# Altium footprint library Basic_fp_lib.PcbLib: 47 footprints (part 2 of 3)
Each footprint in its own frame and in the unit in brackets; x right, y up, seen from the top. Pads: shape width x height; smd on the part's side, far side on the other; paste and mask are expansions set on the pad; w line width, h text height; cw(c..) or ccw(c..) is an arc to the next point about the centre after c.
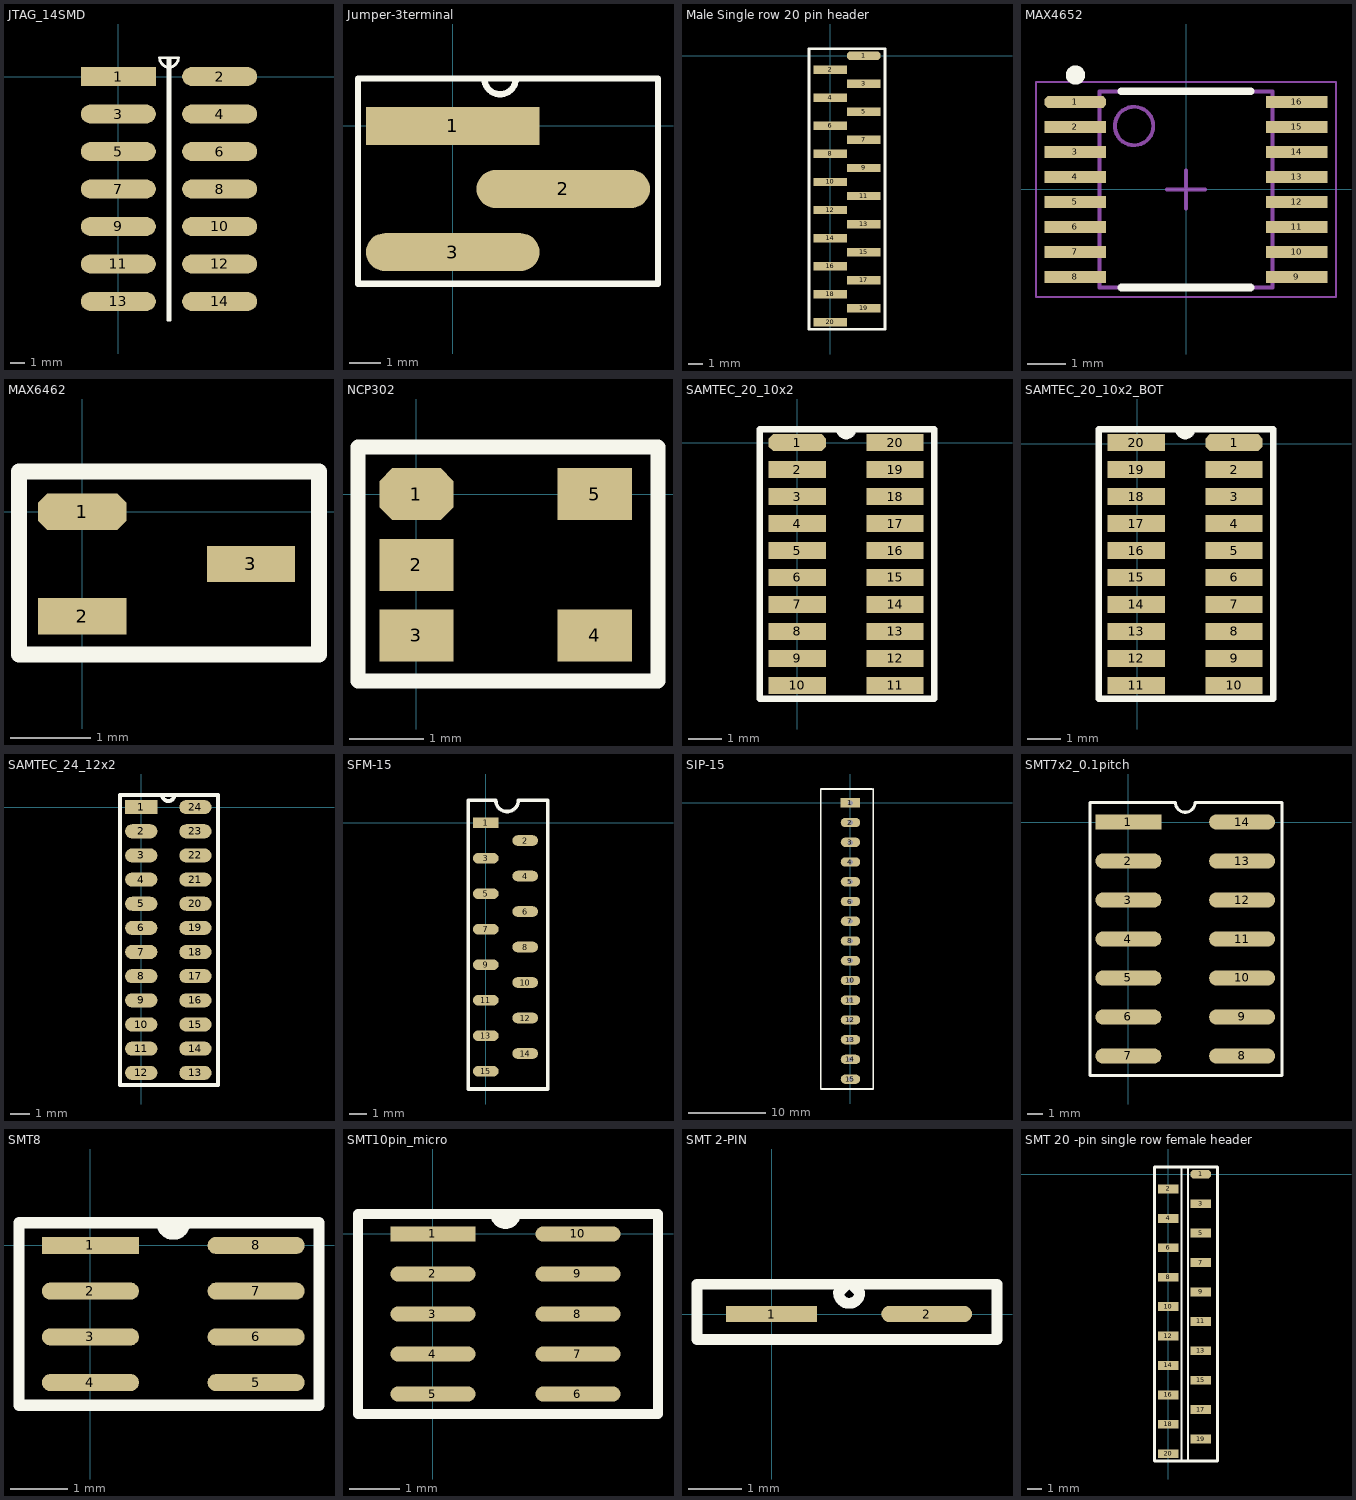
[diagram p1: the footprints below, top view; thin cyan lines are the x and y axes]

## JTAG_14SMD [mm]
pads (14):
  rect 5.08x1.27 smd: 1(0,0)
  oval 5.08x1.27 smd: 2(6.86,0) 3(0,-2.54) 4(6.86,-2.54) 5(0,-5.08) 6(6.86,-5.08) 7(0,-7.62) 8(6.86,-7.62) 9(0,-10.16) 10(6.86,-10.16) 11(0,-12.7) 12(6.86,-12.7) 13(0,-15.24) 14(6.86,-15.24)
Top Overlay:
  lines w0.2: 2.795,1.27 ccw(c3.43,1.27) 4.065,1.27 3.485,1.27 3.485,-16.51 3.375,-16.51 3.375,1.27 2.795,1.27

## Jumper-3terminal [mm]
pads (3):
  rect 5.5x1.2 smd: 1(0,0)
  oval 5.5x1.2 smd: 2(3.5,-2) 3(0,-4)
Top Overlay:
  lines w0.2: 1,1.5 ccw(c1.5,1.5) 2,1.5 ; -3,-5 -3,1.5 1.75,1.5 6.5,1.5 6.5,-5 -3,-5

## Male Single row 20 pin header [mm]
pads (20):
  oct 2.4x0.6 smd: 1(2.4,0)
  rect 2.4x0.6 smd: 2(0,-1) 3(2.4,-2) 4(0,-3) 5(2.4,-4) 6(0,-5) 7(2.4,-6) 8(0,-7) 9(2.4,-8) 10(0,-9) 11(2.4,-10) 12(0,-11) 13(2.4,-12) 14(0,-13) 15(2.4,-14) 16(0,-15) 17(2.4,-16) 18(0,-17) 19(2.4,-18) 20(0,-19)
Top Overlay:
  lines w0.2: 0.95,0.5 3.912,0.5 3.912,-19.5 -1.499,-19.5 -1.499,0.5 1.45,0.5

## MAX4652 [mm] "TSSOP, 16-Leads, Body 5.00x4.40mm, Pitch 0.65mm, Thermal Pad 3.15.2x3.15.2mm, IPC Medium Density"
height 1.1
pads (16):
  oct 1.6x0.3 smd: 1(-2.875,2.275)
  rect 1.6x0.3 smd: 2(-2.875,1.625) 3(-2.875,0.975) 4(-2.875,0.325) 5(-2.875,-0.325) 6(-2.875,-0.975) 7(-2.875,-1.625) 8(-2.875,-2.275) 9(2.875,-2.275) 10(2.875,-1.625) 11(2.875,-0.975) 12(2.875,-0.325) 13(2.875,0.325) 14(2.875,0.975) 15(2.875,1.625) 16(2.875,2.275)
Top Overlay:
  circle w0.25: c-2.875,2.975 r0.125
  lines w0.2: -1.675,-2.55 1.675,-2.55 ; -1.675,2.55 1.675,2.55
Mechanical 13:
  circle w0.1: c-1.35,1.65 r0.5
  lines w0.1: -2.25,-2.55 2.25,-2.55 2.25,2.55 -2.25,2.55 -2.25,-2.55
Mechanical 15:
  lines w0.05: -3.9,-2.8 3.9,-2.8 3.9,2.8 -3.9,2.8 -3.9,-2.8
  lines w0.1: -0.5,0 0.5,0 ; 0,-0.5 0,0.5
3D body: height 1.1, standoff 0.05, extent -2.25,-2.55 2.25,2.55

## MAX6462 [mm]
pads (3):
  oct 1.1x0.45 smd: 1(0,0)
  rect 1.1x0.45 smd: 2(0,-1.3) 3(2.1,-0.65)
Top Overlay:
  lines w0.2: 1.038,0.5 -0.787,0.5 -0.787,-1.778 2.946,-1.778 2.946,0.5 1.062,0.5

## NCP302 [mm]
pads (5):
  oct 1x0.7 smd: 1(0,0)
  rect 1x0.7 smd: 2(0,-0.95) 3(0,-1.9) 4(2.4,-1.9) 5(2.4,0)
Top Overlay:
  lines w0.2: 1.122,0.635 3.251,0.635 3.251,-2.515 -0.787,-2.515 -0.787,0.635 1.278,0.635

## SAMTEC_20_10x2 [mm]
pads (20):
  oct 1.7x0.5 smd: 1(0,0)
  rect 1.7x0.5 smd: 2(0,-0.8) 3(0,-1.6) 4(0,-2.4) 5(0,-3.2) 6(0,-4) 7(0,-4.8) 8(0,-5.6) 9(0,-6.4) 10(0,-7.2) 11(2.9,-7.2) 12(2.9,-6.4) 13(2.9,-5.6) 14(2.9,-4.8) 15(2.9,-4) 16(2.9,-3.2) 17(2.9,-2.4) 18(2.9,-1.6) 19(2.9,-0.8) 20(2.9,0)
Top Overlay:
  lines w0.2: -1.118,-7.6 -1.118,0.4 1.65,0.4 cw(c1.45,0.4) 1.25,0.4 4.064,0.4 4.064,-7.6 -1.118,-7.6

## SAMTEC_20_10x2_BOT [mm]
pads (20):
  oct 1.7x0.5 smd: 1(2.875,0.025)
  rect 1.7x0.5 smd: 2(2.875,-0.775) 3(2.875,-1.575) 4(2.875,-2.375) 5(2.875,-3.175) 6(2.875,-3.975) 7(2.875,-4.775) 8(2.875,-5.575) 9(2.875,-6.375) 10(2.875,-7.175) 11(-0.025,-7.175) 12(-0.025,-6.375) 13(-0.025,-5.575) 14(-0.025,-4.775) 15(-0.025,-3.975) 16(-0.025,-3.175) 17(-0.025,-2.375) 18(-0.025,-1.575) 19(-0.025,-0.775) 20(-0.025,0.025)
Top Overlay:
  lines w0.2: -1.143,-7.575 4.039,-7.575 4.039,0.425 1.225,0.425 ccw(c1.425,0.425) 1.625,0.425 -1.143,0.425 -1.143,-7.575

## SAMTEC_24_12x2 [mm]
pads (24):
  rect 1.7x0.74 smd: 1(0,0)
  oval 1.7x0.74 smd: 2(0,-1.27) 3(0,-2.54) 4(0,-3.81) 5(0,-5.08) 6(0,-6.35) 7(0,-7.62) 8(0,-8.89) 9(0,-10.16) 10(0,-11.43) 11(0,-12.7) 12(0,-13.97) 13(2.85,-13.97) 14(2.85,-12.7) 15(2.85,-11.43) 16(2.85,-10.16) 17(2.85,-8.89) 18(2.85,-7.62) 19(2.85,-6.35) 20(2.85,-5.08) 21(2.85,-3.81) 22(2.85,-2.54) 23(2.85,-1.27) 24(2.85,0)
Top Overlay:
  lines w0.2: -1.118,-14.605 -1.118,0.635 1.742,0.635 cw(c1.425,0.635) 1.107,0.635 4.039,0.635 4.039,-14.605 -1.118,-14.605

## SFM-15 [mm]
pads (15):
  rect 1.45x0.6 smd: 1(0,0)
  oval 1.45x0.6 smd: 2(2.22,-1) 3(0,-2) 4(2.22,-3) 5(0,-4) 6(2.22,-5) 7(0,-6) 8(2.22,-7) 9(0,-8) 10(2.22,-9) 11(0,-10) 12(2.22,-11) 13(0,-12) 14(2.22,-13) 15(0,-14)
Top Overlay:
  lines w0.2: -1,-15 3.5,-15 3.5,1.27 1.835,1.27 cw(c1.2,1.27) 0.565,1.27 -1,1.27 -1,-15

## SIP-15 [mm]
pads (15):
  rect 2.5x1.2 hole 0.64: 1(0,0)
  oval 2.5x1.2 hole 0.64: 2(0,-2.54) 3(0,-5.08) 4(0,-7.62) 5(0,-10.16) 6(0,-12.7) 7(0,-15.24) 8(0,-17.78) 9(0,-20.32) 10(0,-22.86) 11(0,-25.4) 12(0,-27.94) 13(0,-30.48) 14(0,-33.02) 15(0,-35.56)
Top Overlay:
  lines w0.2: -3.81,1.778 -3.81,-36.83 2.921,-36.83 2.921,0.635 ; -3.757,1.778 -2.537,1.778 -0.097,1.778 1.123,1.778 2.794,1.778 ; 2.921,0.381 2.921,1.778

## SMT7x2_0.1pitch [mm]
pads (14):
  rect 4.3x1 smd: 1(0,0)
  oval 4.3x1 smd: 2(0,-2.54) 3(0,-5.08) 4(0,-7.62) 5(0,-10.16) 6(0,-12.7) 7(0,-15.24) 8(7.4,-15.24) 9(7.4,-12.7) 10(7.4,-10.16) 11(7.4,-7.62) 12(7.4,-5.08) 13(7.4,-2.54) 14(7.4,0)
Top Overlay:
  lines w0.2: -2.5,-16.51 -2.5,1.27 3.065,1.27 ccw(c3.7,1.27) 4.335,1.27 10,1.27 10,-16.51 -2.5,-16.51

## SMT8 [mm]
pads (8):
  rect 1.7x0.3 smd: 1(0,0)
  oval 1.7x0.3 smd: 2(0,-0.8) 3(0,-1.6) 4(0,-2.4) 5(2.9,-2.4) 6(2.9,-1.6) 7(2.9,-0.8) 8(2.9,0)
Top Overlay:
  lines w0.2: -1.25,-2.8 -1.25,0.4 1.65,0.4 cw(c1.45,0.4) 1.25,0.4 4,0.4 4,-2.8 -1.25,-2.8

## SMT10pin_micro [mm]
pads (10):
  rect 1.7x0.3 smd: 1(0,0)
  oval 1.7x0.3 smd: 2(0,-0.8) 3(0,-1.6) 4(0,-2.4) 5(0,-3.2) 6(2.9,-3.2) 7(2.9,-2.4) 8(2.9,-1.6) 9(2.9,-0.8) 10(2.9,0)
Top Overlay:
  lines w0.2: -1.5,-3.6 4.5,-3.6 4.5,0.4 1.25,0.4 ccw(c1.45,0.4) 1.65,0.4 -1.5,0.4 -1.5,-3.6

## SMT 2-PIN [mm]
pads (2):
  rect 1.7x0.3 smd: 1(0,0)
  oval 1.7x0.3 smd: 2(2.9,0)
Top Overlay:
  lines w0.2: -1.397,-0.476 0.012,-0.476 2.637,-0.476 4.216,-0.476 4.216,0.559 1.409,0.559 1.25,0.4 ccw(c1.45,0.4) 1.65,0.4 1.491,0.559 -1.397,0.559 -1.397,-0.476

## SMT 20 -pin single row female header [mm]
height 2.1
pads (20):
  oct 1.4x0.6 smd: 1(2.2,0)
  rect 1.4x0.6 smd: 2(0,-1) 3(2.2,-2) 4(0,-3) 5(2.2,-4) 6(0,-5) 7(2.2,-6) 8(0,-7) 9(2.2,-8) 10(0,-9) 11(2.2,-10) 12(0,-11) 13(2.2,-12) 14(0,-13) 15(2.2,-14) 16(0,-15) 17(2.2,-16) 18(0,-17) 19(2.2,-18) 20(0,-19)
Top Overlay:
  lines w0.127: 0.889,-19.406 0.889,0.389 ; 1.321,-19.406 1.321,0.389
  lines w0.2: 0.85,0.5 3.327,0.5 3.327,-19.5 -0.94,-19.5 -0.94,0.5 1.35,0.5
3D body: height 2.1, standoff 0, extent -0.802,-19.402 3.002,0.402